# EAGLE library part MC33063ADR2G (library ON Semiconductor_By_element14_Batch_1)
Step-Up/Down/Inverting Switching Regulators
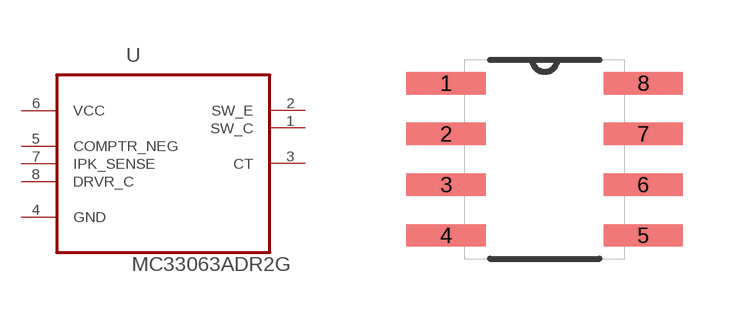
[diagram p324: symbol with the pads of SOIC127P600X175-8N; footprint SOIC127P600X175-8N]

Designator prefix U

## MC33063ADR2G (MPN: MC33063ADR2G; OC_FARNELL: 1569173; OC_NEWARK: 88H4721; P1I: o; PACKAGE: SOIC-8; SUPPLIER: ON Semiconductor)  [SOIC127P600X175-8N]
1  SW_C  out
2  SW_E  out
3  CT  out
4  GND  pas
5  COMPTR_NEG  in
6  VCC  pwr
7  IPK_SENSE  pas
8  DRVR_C  in

## Footprint SOIC127P600X175-8N (pad centres in mm)
smd 1.981 x 0.559: 1 -2.464,1.905; 2 -2.464,0.635; 3 -2.464,-0.635; 4 -2.464,-1.905; 5 2.464,-1.905; 6 2.464,-0.635; 7 2.464,0.635; 8 2.464,1.905